# Altium integrated library IR Rectifier - Ultrafast Recovery.IntLib: 68 symbols
Pins are listed as number, name and electrical type; pins without a type are passive.

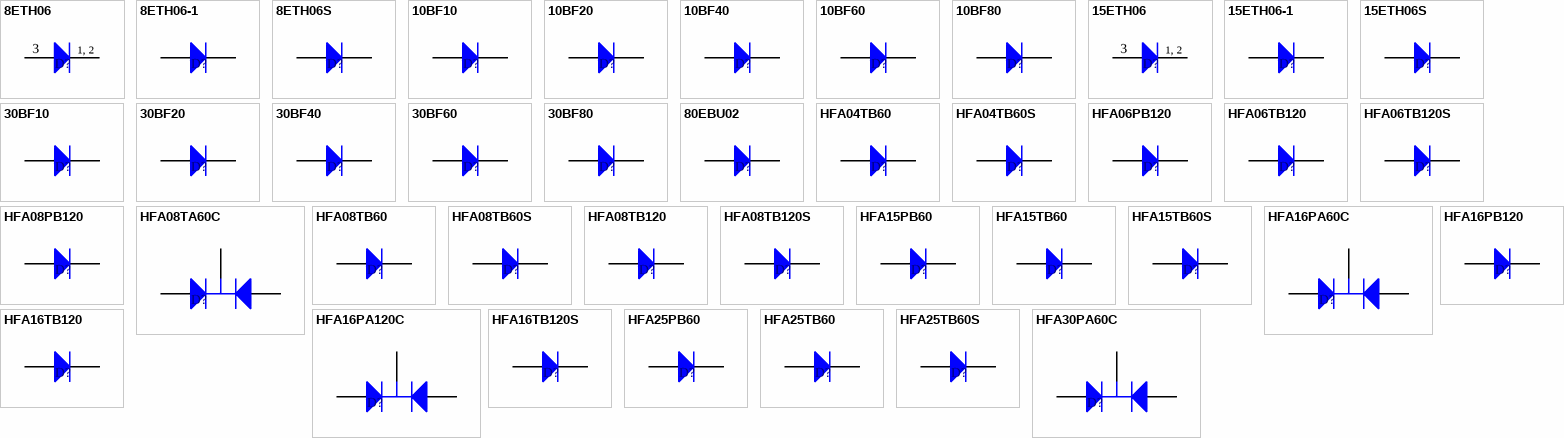
[diagram p0: symbols 8ETH06 to HFA30PA60C]

## 8ETH06
designator D?
Hyperfast Rectifier; Published: 17-Sep-2003; DatasheetDocument: Aug-2001; PackageDocument: Feb-1998; PackageReference: TO-220AC; Publisher: Altium Limited; ComponentLink1Description: Manufacturer Link; ComponentLink1URL: http://www.irf.com/; ComponentLink2Description: Datasheet; ComponentLink2URL: http://www.irf.com/product-info/datasheets/data/8ETH06.pdf
footprint TO-220AC (TO, Thru-Hole, Vertical, Heatsink Mounted; 3 In-Line Leads (1 Absent); Pitch 2.54 mm)
simulation model 8ETH06 (DIODE)
pins: 1 K, 2 K, 3 A
text: 1, 2

## 8ETH06-1
designator D?
Hyperfast Rectifier; Note: Pin 1 is not connected and not drawn; Published: 17-Sep-2003; DatasheetDocument: Aug-2001; PackageReference: TO-262; Publisher: Altium Limited; ComponentLink1Description: Manufacturer Link; ComponentLink1URL: http://www.irf.com/; ComponentLink2Description: Datasheet; ComponentLink2URL: http://www.irf.com/product-info/datasheets/data/8ETH06.pdf
footprint TO-262 (TO, Thru-Hole, Vertical, Heatsink Mounted; 3 In-Line Leads; Pitch 2.54 mm)
pins: 2 K, 3 A

## 8ETH06S
designator D?
Hyperfast Rectifier; Note: Pin 1 is not connected and not drawn; Published: 17-Sep-2003; DatasheetDocument: Aug-2001; PackageReference: D2PAK; Publisher: Altium Limited; ComponentLink1Description: Manufacturer Link; ComponentLink1URL: http://www.irf.com/; ComponentLink2Description: Datasheet; ComponentLink2URL: http://www.irf.com/product-info/datasheets/data/8ETH06.pdf
footprint D2PAK (D2-PAK/TO-263-AB; 3 Leads (1 Cropped); Body 15.5 (inc. leads) x 10.5 mm (LxW max))
pins: 2 K, 3 A

## 10BF10
designator D?
Surface Mountable Ultrafast Recovery Diode; Published: 8-Jun-2000; LatestRevisionDate: 17-Jul-2002; LatestRevisionNote: Re-released for DXP Platform.; DatasheetDocument: Jun-1999; PackageReference: SMB; Publisher: Altium Limited; ComponentLink1Description: Manufacturer Link; ComponentLink1URL: http://www.irf.com/; ComponentLink2Description: Datasheet; ComponentLink2URL: http://www.irf.com/product-info/datasheets/data/10bf.pdf
footprint SMB (DO-214-AA/SMB; 2 C-Bend Leads; Body 5.3 x 3.6 mm, inc. leads (LxW))
signal-integrity model 10BF10
pins: 1 A, 2 K

## 10BF20
designator D?
Surface Mountable Ultrafast Recovery Diode; Published: 8-Jun-2000; LatestRevisionDate: 17-Jul-2002; LatestRevisionNote: Re-released for DXP Platform.; DatasheetDocument: Jun-1999; PackageReference: SMB; Publisher: Altium Limited; ComponentLink1Description: Manufacturer Link; ComponentLink1URL: http://www.irf.com/; ComponentLink2Description: Datasheet; ComponentLink2URL: http://www.irf.com/product-info/datasheets/data/10bf.pdf
footprint SMB (DO-214-AA/SMB; 2 C-Bend Leads; Body 5.3 x 3.6 mm, inc. leads (LxW))
signal-integrity model 10BF20
pins: 1 A, 2 K

## 10BF40
designator D?
Surface Mountable Ultrafast Recovery Diode; Published: 8-Jun-2000; LatestRevisionDate: 17-Jul-2002; LatestRevisionNote: Re-released for DXP Platform.; DatasheetDocument: Jun-1999; PackageReference: SMB; Publisher: Altium Limited; ComponentLink1Description: Manufacturer Link; ComponentLink1URL: http://www.irf.com/; ComponentLink2Description: Datasheet; ComponentLink2URL: http://www.irf.com/product-info/datasheets/data/10bf.pdf
footprint SMB (DO-214-AA/SMB; 2 C-Bend Leads; Body 5.3 x 3.6 mm, inc. leads (LxW))
signal-integrity model 10BF40
pins: 1 A, 2 K

## 10BF60
designator D?
Surface Mountable Ultrafast Recovery Diode; Published: 8-Jun-2000; LatestRevisionDate: 17-Jul-2002; LatestRevisionNote: Re-released for DXP Platform.; DatasheetDocument: Jun-1999; PackageReference: SMB; Publisher: Altium Limited; ComponentLink1Description: Manufacturer Link; ComponentLink1URL: http://www.irf.com/; ComponentLink2Description: Datasheet; ComponentLink2URL: http://www.irf.com/product-info/datasheets/data/10bf.pdf
footprint SMB (DO-214-AA/SMB; 2 C-Bend Leads; Body 5.3 x 3.6 mm, inc. leads (LxW))
signal-integrity model 10BF60
pins: 1 A, 2 K

## 10BF80
designator D?
Surface Mountable Ultrafast Recovery Diode; Published: 8-Jun-2000; LatestRevisionDate: 17-Jul-2002; LatestRevisionNote: Re-released for DXP Platform.; DatasheetDocument: Jun-1999; PackageReference: SMB; Publisher: Altium Limited; ComponentLink1Description: Manufacturer Link; ComponentLink1URL: http://www.irf.com/; ComponentLink2Description: Datasheet; ComponentLink2URL: http://www.irf.com/product-info/datasheets/data/10bf.pdf
footprint SMB (DO-214-AA/SMB; 2 C-Bend Leads; Body 5.3 x 3.6 mm, inc. leads (LxW))
signal-integrity model 10BF80
pins: 1 A, 2 K

## 15ETH06
designator D?
Hyperfast Rectifier; Published: 17-Sep-2003; DatasheetDocument: Aug-2001; PackageDocument: Feb-1998; PackageReference: TO-220AC; Publisher: Altium Limited; ComponentLink1Description: Manufacturer Link; ComponentLink1URL: http://www.irf.com/; ComponentLink2Description: Datasheet; ComponentLink2URL: http://www.irf.com/product-info/datasheets/data/15ETH06.pdf
footprint TO-220AC (TO, Thru-Hole, Vertical, Heatsink Mounted; 3 In-Line Leads (1 Absent); Pitch 2.54 mm)
simulation model 15ETH06 (DIODE)
pins: 1 K, 2 K, 3 A
text: 1, 2

## 15ETH06-1
designator D?
Hyperfast Rectifier; Note: Pin 1 is not connected and not drawn; Published: 17-Sep-2003; DatasheetDocument: Rev. D, 1/08/2001; PackageReference: TO-262; Publisher: Altium Limited; ComponentLink1Description: Manufacturer Link; ComponentLink1URL: http://www.irf.com/; ComponentLink2Description: Datasheet; ComponentLink2URL: http://www.irf.com/product-info/datasheets/data/15ETH06.pdf
footprint TO-262 (TO, Thru-Hole, Vertical, Heatsink Mounted; 3 In-Line Leads; Pitch 2.54 mm)
pins: 2 K, 3 A

## 15ETH06S
designator D?
Hyperfast Rectifier; Note: Pin 1 is not connected and not drawn; Published: 17-Sep-2003; DatasheetDocument: Rev. D, 1/08/2001; PackageReference: D2PAK; Publisher: Altium Limited; ComponentLink1Description: Manufacturer Link; ComponentLink1URL: http://www.irf.com/; ComponentLink2Description: Datasheet; ComponentLink2URL: http://www.irf.com/product-info/datasheets/data/15ETH06.pdf
footprint D2PAK (D2-PAK/TO-263-AB; 3 Leads (1 Cropped); Body 15.5 (inc. leads) x 10.5 mm (LxW max))
pins: 2 K, 3 A

## 30BF10
designator D?
Surface Mountable Ultrafast Recovery Diode; Published: 8-Jun-2000; LatestRevisionDate: 17-Jul-2002; LatestRevisionNote: Re-released for DXP Platform.; DatasheetDocument: Jul-1999; PackageReference: SMC; Publisher: Altium Limited; Code_JEDEC: DO-214-AB; ComponentLink1Description: Manufacturer Link; ComponentLink1URL: http://www.irf.com/; ComponentLink2Description: Datasheet; ComponentLink2URL: http://www.irf.com/product-info/datasheets/data/30bf.pdf
footprint SMC (DO-214-AB/SMC; 2 C-Bend Leads; Body 7.9 x 5.9 mm, inc. leads (LxW))
signal-integrity model 30BF10
pins: 1 A, 2 K

## 30BF20
designator D?
Surface Mountable Ultrafast Recovery Diode; Published: 8-Jun-2000; LatestRevisionDate: 17-Jul-2002; LatestRevisionNote: Re-released for DXP Platform.; DatasheetDocument: Jul-1999; PackageReference: SMC; Publisher: Altium Limited; Code_JEDEC: DO-214-AB; ComponentLink1Description: Manufacturer Link; ComponentLink1URL: http://www.irf.com/; ComponentLink2Description: Datasheet; ComponentLink2URL: http://www.irf.com/product-info/datasheets/data/30bf.pdf
footprint SMC (DO-214-AB/SMC; 2 C-Bend Leads; Body 7.9 x 5.9 mm, inc. leads (LxW))
signal-integrity model 30BF20
pins: 1 A, 2 K

## 30BF40
designator D?
Surface Mountable Ultrafast Recovery Diode; Published: 8-Jun-2000; LatestRevisionDate: 17-Jul-2002; LatestRevisionNote: Re-released for DXP Platform.; DatasheetDocument: Jul-1999; PackageReference: SMC; Publisher: Altium Limited; Code_JEDEC: DO-214-AB; ComponentLink1Description: Manufacturer Link; ComponentLink1URL: http://www.irf.com/; ComponentLink2Description: Datasheet; ComponentLink2URL: http://www.irf.com/product-info/datasheets/data/30bf.pdf
footprint SMC (DO-214-AB/SMC; 2 C-Bend Leads; Body 7.9 x 5.9 mm, inc. leads (LxW))
signal-integrity model 30BF40
pins: 1 A, 2 K

## 30BF60
designator D?
Surface Mountable Ultrafast Recovery Diode; Published: 8-Jun-2000; LatestRevisionDate: 17-Jul-2002; LatestRevisionNote: Re-released for DXP Platform.; DatasheetDocument: Jul-1999; PackageReference: SMC; Publisher: Altium Limited; Code_JEDEC: DO-214-AB; ComponentLink1Description: Manufacturer Link; ComponentLink1URL: http://www.irf.com/; ComponentLink2Description: Datasheet; ComponentLink2URL: http://www.irf.com/product-info/datasheets/data/30bf.pdf
footprint SMC (DO-214-AB/SMC; 2 C-Bend Leads; Body 7.9 x 5.9 mm, inc. leads (LxW))
signal-integrity model 30BF60
pins: 1 A, 2 K

## 30BF80
designator D?
Surface Mountable Ultrafast Recovery Diode; Published: 8-Jun-2000; LatestRevisionDate: 17-Jul-2002; LatestRevisionNote: Re-released for DXP Platform.; DatasheetDocument: Jul-1999; PackageReference: SMC; Publisher: Altium Limited; Code_JEDEC: DO-214-AB; ComponentLink1Description: Manufacturer Link; ComponentLink1URL: http://www.irf.com/; ComponentLink2Description: Datasheet; ComponentLink2URL: http://www.irf.com/product-info/datasheets/data/30bf.pdf
footprint SMC (DO-214-AB/SMC; 2 C-Bend Leads; Body 7.9 x 5.9 mm, inc. leads (LxW))
signal-integrity model 30BF80
pins: 1 A, 2 K

## 80EBU02
designator D?
Ultrafast, Soft Recovery Diode; Published: 17-Sep-2003; DatasheetDocument: Jan-2001; PackageReference: PowIRtab; Publisher: Altium Limited; ComponentLink1Description: Manufacturer Link; ComponentLink1URL: http://www.irf.com/; ComponentLink2Description: Datasheet; ComponentLink2URL: http://www.irf.com/product-info/datasheets/data/80EBU02.pdf
simulation model 80EBU02 (DIODE)
pins: 1 K, 2 A

## HFA04TB60
designator D?
Ultrafast, Soft Recovery Diode; Note: Terminal 2 is the TAB and is electrically connected to the cathode; Published: 8-Jun-2000; LatestRevisionDate: 17-Jul-2002; LatestRevisionNote: Re-released for DXP Platform.; DatasheetDocument: Apr-1997; PackageDocument: Feb-1998; PackageReference: TO-220AC; Publisher: Altium Limited; ComponentLink1Description: Manufacturer Link; ComponentLink1URL: http://www.irf.com/; ComponentLink2Description: Datasheet; ComponentLink2URL: http://www.irf.com/product-info/datasheets/data/hfa04tb60.pdf
footprint TO-220AC (TO, Thru-Hole, Vertical, Heatsink Mounted; 3 In-Line Leads (1 Absent); Pitch 2.54 mm)
simulation model HFA04TB60 (SUBCKT)
signal-integrity model HFA04TB60
pins: 1 K, 3 A

## HFA04TB60S
designator D?
Ultrafast, Soft Recovery Diode; Note: Pin 1 is not connected and not drawn; Published: 8-Jun-2000; LatestRevisionDate: 17-Jul-2002; LatestRevisionNote: Re-released for DXP Platform.; DatasheetDocument: Jan-1999; PackageReference: D2PAK; Publisher: Altium Limited; ComponentLink1Description: Manufacturer Link; ComponentLink1URL: http://www.irf.com/; ComponentLink2Description: Datasheet; ComponentLink2URL: http://www.irf.com/product-info/datasheets/data/hfa04tb60s.pdf
footprint D2PAK (D2-PAK/TO-263-AB; 3 Leads (1 Cropped); Body 15.5 (inc. leads) x 10.5 mm (LxW max))
signal-integrity model HFA04TB60S
pins: 2 K, 3 A

## HFA06PB120
designator D?
Ultrafast, Soft Recovery Diode; Note: Pin 2 is missing from package and is not drawn; Published: 8-Jun-2000; LatestRevisionDate: 17-Jul-2002; LatestRevisionNote: Re-released for DXP Platform.; DatasheetDocument: Apr-1999; PackageDocument: Sep-1997; PackageReference: TO-247AC_A; Publisher: Altium Limited; ComponentLink1Description: Manufacturer Link; ComponentLink1URL: http://www.irf.com/; ComponentLink2Description: Datasheet; ComponentLink2URL: http://www.irf.com/product-info/datasheets/data/hfa06pb120.pdf
footprint TO-247AC_A (SIP with Mounting Hole; 2 Leads; Body 20 x 15.6 x 5 mm (typ))
signal-integrity model HFA06PB120
pins: 1 K, 3 A

## HFA06TB120
designator D?
Ultrafast, Soft Recovery Diode; Note: Terminal 2 is the TAB and is electrically connected to the cathode; Published: 8-Jun-2000; LatestRevisionDate: 17-Jul-2002; LatestRevisionNote: Re-released for DXP Platform.; DatasheetDocument: Apr-1999; PackageDocument: Feb-1998; PackageReference: TO-220AC; Publisher: Altium Limited; ComponentLink1Description: Manufacturer Link; ComponentLink1URL: http://www.irf.com/; ComponentLink2Description: Datasheet; ComponentLink2URL: http://www.irf.com/product-info/datasheets/data/hfa06tb120.pdf
footprint TO-220AC (TO, Thru-Hole, Vertical, Heatsink Mounted; 3 In-Line Leads (1 Absent); Pitch 2.54 mm)
simulation model HFA06TB120 (DIODE)
signal-integrity model HFA06TB120
pins: 1 K, 3 A

## HFA06TB120S
designator D?
Ultrafast, Soft Recovery Diode; Note: Pin 1 is not connected and not drawn; Published: 8-Jun-2000; LatestRevisionDate: 17-Jul-2002; LatestRevisionNote: Re-released for DXP Platform.; DatasheetDocument: Jan-1999; PackageReference: D2PAK; Publisher: Altium Limited; ComponentLink1Description: Manufacturer Link; ComponentLink1URL: http://www.irf.com/; ComponentLink2Description: Datasheet; ComponentLink2URL: http://www.irf.com/product-info/datasheets/data/hfa06tb120s.pdf
footprint D2PAK (D2-PAK/TO-263-AB; 3 Leads (1 Cropped); Body 15.5 (inc. leads) x 10.5 mm (LxW max))
signal-integrity model HFA06TB120S
pins: 2 K, 3 A

## HFA08PB120
designator D?
Ultrafast, Soft Recovery Diode; Note: Pin 2 is missing from package and is not drawn; Published: 8-Jun-2000; LatestRevisionDate: 17-Jul-2002; LatestRevisionNote: Re-released for DXP Platform.; DatasheetDocument: May-1997; PackageDocument: Sep-1997; PackageReference: TO-247AC_A; Publisher: Altium Limited; ComponentLink1Description: Manufacturer Link; ComponentLink1URL: http://www.irf.com/; ComponentLink2Description: Datasheet; ComponentLink2URL: http://www.irf.com/product-info/datasheets/data/hfa08pb120.pdf
footprint TO-247AC_A (SIP with Mounting Hole; 2 Leads; Body 20 x 15.6 x 5 mm (typ))
simulation model HFA08PB120 (SUBCKT)
signal-integrity model HFA08PB120
pins: 1 K, 3 A

## HFA08TA60C
designator D?
Ultrafast, Soft Recovery Diode; Published: 8-Jun-2000; LatestRevisionDate: 17-Jul-2002; LatestRevisionNote: Re-released for DXP Platform.; DatasheetDocument: Apr-1997; PackageDocument: Feb-1997; PackageReference: TO-220AB; Publisher: Altium Limited; ComponentLink1Description: Manufacturer Link; ComponentLink1URL: http://www.irf.com/; ComponentLink2Description: Datasheet; ComponentLink2URL: http://www.irf.com/product-info/datasheets/data/hfa08ta60c.pdf
footprint TO-220AB (TO, Thru-Hole, Vertical, Heatsink Mounted; 3 In-Line Leads; Pitch 2.54 mm)
signal-integrity model HFA08TA60C
pins: 1 A1, 2 K, 3 A2

## HFA08TB60
designator D?
Ultrafast, Soft Recovery Diode; Note: Terminal 2 is the TAB and is electrically connected to the cathode; Published: 8-Jun-2000; LatestRevisionDate: 17-Jul-2002; LatestRevisionNote: Re-released for DXP Platform.; DatasheetDocument: Apr-1997; PackageDocument: Feb-1998; PackageReference: TO-220AC; Publisher: Altium Limited; ComponentLink1Description: Manufacturer Link; ComponentLink1URL: http://www.irf.com/; ComponentLink2Description: Datasheet; ComponentLink2URL: http://www.irf.com/product-info/datasheets/data/hfa08tb60.pdf
footprint TO-220AC (TO, Thru-Hole, Vertical, Heatsink Mounted; 3 In-Line Leads (1 Absent); Pitch 2.54 mm)
simulation model HFA08TB60 (DIODE)
signal-integrity model HFA08TB60
pins: 1 K, 3 A

## HFA08TB60S
designator D?
Ultrafast, Soft Recovery Diode; Note: Pin 1 is not connected and not drawn; Published: 8-Jun-2000; LatestRevisionDate: 17-Jul-2002; LatestRevisionNote: Re-released for DXP Platform.; DatasheetDocument: Jan-1999; PackageReference: D2PAK; Publisher: Altium Limited; ComponentLink1Description: Manufacturer Link; ComponentLink1URL: http://www.irf.com/; ComponentLink2Description: Datasheet; ComponentLink2URL: http://www.irf.com/product-info/datasheets/data/hfa08tb60s.pdf
footprint D2PAK (D2-PAK/TO-263-AB; 3 Leads (1 Cropped); Body 15.5 (inc. leads) x 10.5 mm (LxW max))
signal-integrity model HFA08TB60S
pins: 2 K, 3 A

## HFA08TB120
designator D?
Ultrafast, Soft Recovery Diode; Note: Terminal 2 is the TAB and is electrically connected to the cathode; Published: 8-Jun-2000; LatestRevisionDate: 17-Jul-2002; LatestRevisionNote: Re-released for DXP Platform.; DatasheetDocument: May-1997; PackageDocument: Feb-1998; PackageReference: TO-220AC; Publisher: Altium Limited; ComponentLink1Description: Manufacturer Link; ComponentLink1URL: http://www.irf.com/; ComponentLink2Description: Datasheet; ComponentLink2URL: http://www.irf.com/product-info/datasheets/data/hfa08tb120.pdf
footprint TO-220AC (TO, Thru-Hole, Vertical, Heatsink Mounted; 3 In-Line Leads (1 Absent); Pitch 2.54 mm)
signal-integrity model HFA08TB120
pins: 1 K, 3 A

## HFA08TB120S
designator D?
Ultrafast, Soft Recovery Diode; Note: Pin 1 is not connected and not drawn; Published: 8-Jun-2000; LatestRevisionDate: 17-Jul-2002; LatestRevisionNote: Re-released for DXP Platform.; DatasheetDocument: Jan-1999; PackageReference: D2PAK; Publisher: Altium Limited; ComponentLink1Description: Manufacturer Link; ComponentLink1URL: http://www.irf.com/; ComponentLink2Description: Datasheet; ComponentLink2URL: http://www.irf.com/product-info/datasheets/data/hfa08tb120s.pdf
footprint D2PAK (D2-PAK/TO-263-AB; 3 Leads (1 Cropped); Body 15.5 (inc. leads) x 10.5 mm (LxW max))
signal-integrity model HFA08TB120S
pins: 2 K, 3 A

## HFA15PB60
designator D?
Ultrafast, Soft Recovery Diode; Note: Pin 2 is missing from package and is not drawn; Published: 8-Jun-2000; LatestRevisionDate: 17-Jul-2002; LatestRevisionNote: Re-released for DXP Platform.; DatasheetDocument: Apr-1997; PackageDocument: Sep-1997; PackageReference: TO-247AC_A; Publisher: Altium Limited; ComponentLink1Description: Manufacturer Link; ComponentLink1URL: http://www.irf.com/; ComponentLink2Description: Datasheet; ComponentLink2URL: http://www.irf.com/product-info/datasheets/data/hfa15pb60.pdf
footprint TO-247AC_A (SIP with Mounting Hole; 2 Leads; Body 20 x 15.6 x 5 mm (typ))
simulation model HFA15PB60 (DIODE)
signal-integrity model HFA15PB60
pins: 1 K, 3 A

## HFA15TB60
designator D?
Ultrafast, Soft Recovery Diode; Note: Terminal 2 is the TAB and is electrically connected to the cathode; Published: 8-Jun-2000; LatestRevisionDate: 17-Jul-2002; LatestRevisionNote: Re-released for DXP Platform.; DatasheetDocument: Apr-1997; PackageDocument: Feb-1998; PackageReference: TO-220AC; Publisher: Altium Limited; ComponentLink1Description: Manufacturer Link; ComponentLink1URL: http://www.irf.com/; ComponentLink2Description: Datasheet; ComponentLink2URL: http://www.irf.com/product-info/datasheets/data/hfa15tb60.pdf
footprint TO-220AC (TO, Thru-Hole, Vertical, Heatsink Mounted; 3 In-Line Leads (1 Absent); Pitch 2.54 mm)
simulation model HFA15TB60 (SUBCKT)
signal-integrity model HFA15TB60
pins: 1 K, 3 A

## HFA15TB60S
designator D?
Ultrafast, Soft Recovery Diode; Note: Pin 1 is not connected and not drawn; Published: 8-Jun-2000; LatestRevisionDate: 17-Jul-2002; LatestRevisionNote: Re-released for DXP Platform.; DatasheetDocument: Jan-1999; PackageReference: D2PAK; Publisher: Altium Limited; ComponentLink1Description: Manufacturer Link; ComponentLink1URL: http://www.irf.com/; ComponentLink2Description: Datasheet; ComponentLink2URL: http://www.irf.com/product-info/datasheets/data/hfa15tb60s.pdf
footprint D2PAK (D2-PAK/TO-263-AB; 3 Leads (1 Cropped); Body 15.5 (inc. leads) x 10.5 mm (LxW max))
signal-integrity model HFA15TB60S
pins: 2 K, 3 A

## HFA16PA60C
designator D?
Ultrafast, Soft Recovery Diode; Published: 8-Jun-2000; LatestRevisionDate: 17-Jul-2002; LatestRevisionNote: Re-released for DXP Platform.; DatasheetDocument: Apr-1997; PackageDocument: Aug-1997; PackageReference: TO-247AC; Publisher: Altium Limited; Code_JEDEC: TO-247-AC; ComponentLink1Description: Manufacturer Link; ComponentLink1URL: http://www.irf.com/; ComponentLink2Description: Datasheet; ComponentLink2URL: http://www.irf.com/product-info/datasheets/data/hfa16pa60c.pdf
footprint TO-247AC (SIP with Mounting Hole; 3 Leads; Body 20 x 15.6 x 5 mm (typ); Pitch 5.45 mm)
signal-integrity model HFA16PA60C
pins: 1 A1, 2 K, 3 A2

## HFA16PA120C
designator D?
Ultrafast, Soft Recovery Diode; Published: 8-Jun-2000; LatestRevisionDate: 17-Jul-2002; LatestRevisionNote: Re-released for DXP Platform.; DatasheetDocument: PD-2.361; PackageDocument: Aug-1997; PackageReference: TO-247AC; Publisher: Altium Limited; Code_JEDEC: TO-247-AC; ComponentLink1Description: Manufacturer Link; ComponentLink1URL: http://www.irf.com/; ComponentLink2Description: Datasheet; ComponentLink2URL: http://www.irf.com/product-info/datasheets/data/hfa16pa120c.pdf
footprint TO-247AC (SIP with Mounting Hole; 3 Leads; Body 20 x 15.6 x 5 mm (typ); Pitch 5.45 mm)
signal-integrity model HFA16PA120C
pins: 1 A1, 2 K, 3 A2

## HFA16PB120
designator D?
Ultrafast, Soft Recovery Diode; Note: Pin 2 is missing from package and is not drawn; Published: 8-Jun-2000; LatestRevisionDate: 17-Jul-2002; LatestRevisionNote: Re-released for DXP Platform.; DatasheetDocument: May-1997; PackageDocument: Sep-1997; PackageReference: TO-247AC_A; Publisher: Altium Limited; ComponentLink1Description: Manufacturer Link; ComponentLink1URL: http://www.irf.com/; ComponentLink2Description: Datasheet; ComponentLink2URL: http://www.irf.com/product-info/datasheets/data/hfa16pb120.pdf
footprint TO-247AC_A (SIP with Mounting Hole; 2 Leads; Body 20 x 15.6 x 5 mm (typ))
simulation model HFA16PB120 (SUBCKT)
signal-integrity model HFA16PB120
pins: 1 K, 3 A

## HFA16TB120
designator D?
Ultrafast, Soft Recovery Diode; Note: Terminal 2 is the TAB and is electrically connected to the cathode; Published: 8-Jun-2000; LatestRevisionDate: 17-Jul-2002; LatestRevisionNote: Re-released for DXP Platform.; DatasheetDocument: May-1997; PackageDocument: Feb-1998; PackageReference: TO-220AC; Publisher: Altium Limited; ComponentLink1Description: Manufacturer Link; ComponentLink1URL: http://www.irf.com/; ComponentLink2Description: Datasheet; ComponentLink2URL: http://www.irf.com/product-info/datasheets/data/hfa16tb120.pdf
footprint TO-220AC (TO, Thru-Hole, Vertical, Heatsink Mounted; 3 In-Line Leads (1 Absent); Pitch 2.54 mm)
signal-integrity model HFA16TB120
pins: 1 K, 3 A

## HFA16TB120S
designator D?
Ultrafast, Soft Recovery Diode; Note: Pin 1 is not connected and not drawn; Published: 8-Jun-2000; LatestRevisionDate: 17-Jul-2002; LatestRevisionNote: Re-released for DXP Platform.; DatasheetDocument: Jan-1999; PackageReference: D2PAK; Publisher: Altium Limited; ComponentLink1Description: Manufacturer Link; ComponentLink1URL: http://www.irf.com/; ComponentLink2Description: Datasheet; ComponentLink2URL: http://www.irf.com/product-info/datasheets/data/hfa16tb120s.pdf
footprint D2PAK (D2-PAK/TO-263-AB; 3 Leads (1 Cropped); Body 15.5 (inc. leads) x 10.5 mm (LxW max))
signal-integrity model HFA16TB120S
pins: 2 K, 3 A

## HFA25PB60
designator D?
Ultrafast, Soft Recovery Diode; Note: Pin 2 is missing from package and is not drawn; Published: 8-Jun-2000; LatestRevisionDate: 17-Jul-2002; LatestRevisionNote: Re-released for DXP Platform.; DatasheetDocument: Apr-1997; PackageDocument: Sep-1997; PackageReference: TO-247AC_A; Publisher: Altium Limited; ComponentLink1Description: Manufacturer Link; ComponentLink1URL: http://www.irf.com/; ComponentLink2Description: Datasheet; ComponentLink2URL: http://www.irf.com/product-info/datasheets/data/hfa25pb60.pdf
footprint TO-247AC_A (SIP with Mounting Hole; 2 Leads; Body 20 x 15.6 x 5 mm (typ))
signal-integrity model HFA25PB60
pins: 1 K, 3 A

## HFA25TB60
designator D?
Ultrafast, Soft Recovery Diode; Note: Terminal 2 is the TAB and is electrically connected to the cathode; Published: 8-Jun-2000; LatestRevisionDate: 17-Jul-2002; LatestRevisionNote: Re-released for DXP Platform.; DatasheetDocument: Apr-1997; PackageDocument: Feb-1998; PackageReference: TO-220AC; Publisher: Altium Limited; ComponentLink1Description: Manufacturer Link; ComponentLink1URL: http://www.irf.com/; ComponentLink2Description: Datasheet; ComponentLink2URL: http://www.irf.com/product-info/datasheets/data/hfa25tb60.pdf
footprint TO-220AC (TO, Thru-Hole, Vertical, Heatsink Mounted; 3 In-Line Leads (1 Absent); Pitch 2.54 mm)
simulation model HFA25TB60 (SUBCKT)
signal-integrity model HFA25TB60
pins: 1 K, 3 A

## HFA25TB60S
designator D?
Ultrafast, Soft Recovery Diode; Note: Pin 1 is not connected and not drawn; Published: 8-Jun-2000; LatestRevisionDate: 17-Jul-2002; LatestRevisionNote: Re-released for DXP Platform.; DatasheetDocument: Jan-1999; PackageReference: D2PAK; Publisher: Altium Limited; ComponentLink1Description: Manufacturer Link; ComponentLink1URL: http://www.irf.com/; ComponentLink2Description: Datasheet; ComponentLink2URL: http://www.irf.com/product-info/datasheets/data/hfa25tb60s.pdf
footprint D2PAK (D2-PAK/TO-263-AB; 3 Leads (1 Cropped); Body 15.5 (inc. leads) x 10.5 mm (LxW max))
signal-integrity model HFA25TB60S
pins: 2 K, 3 A

## HFA30PA60C
designator D?
Ultrafast, Soft Recovery Diode; Published: 8-Jun-2000; LatestRevisionDate: 17-Jul-2002; LatestRevisionNote: Re-released for DXP Platform.; DatasheetDocument: Apr-1998; PackageDocument: Aug-1997; PackageReference: TO-247AC; Publisher: Altium Limited; Code_JEDEC: TO-247-AC; ComponentLink1Description: Manufacturer Link; ComponentLink1URL: http://www.irf.com/; ComponentLink2Description: Datasheet; ComponentLink2URL: http://www.irf.com/product-info/datasheets/data/hfa30pa60c.pdf
footprint TO-247AC (SIP with Mounting Hole; 3 Leads; Body 20 x 15.6 x 5 mm (typ); Pitch 5.45 mm)
simulation model HFA30PA60C (SUBCKT)
signal-integrity model HFA30PA60C
pins: 1 A1, 2 K, 3 A2

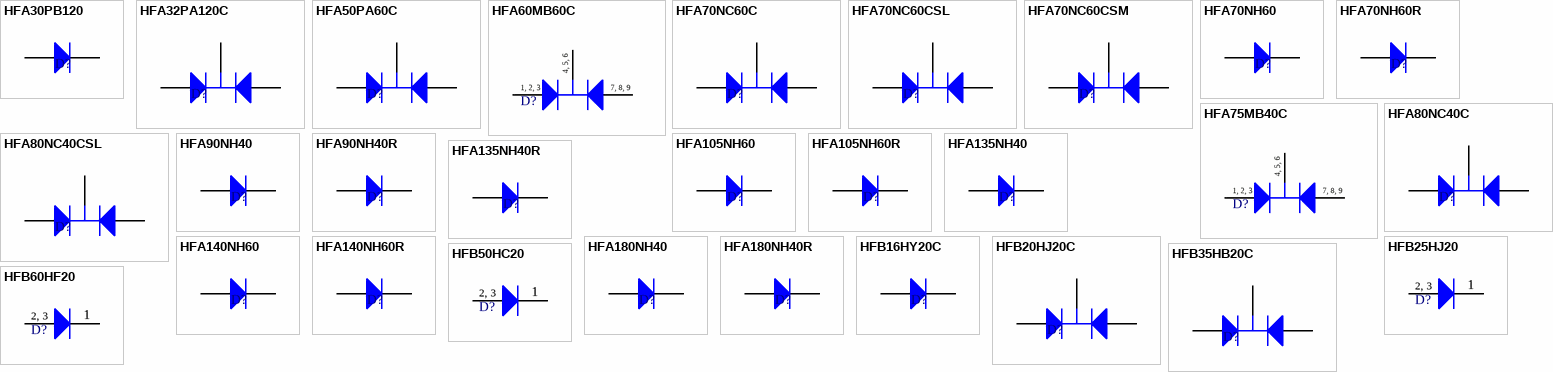
[diagram p1: symbols HFA30PB120 to HFB60HF20]

## HFA30PB120
designator D?
Ultrafast, Soft Recovery Diode; Note: Pin 2 is missing from package and is not drawn; Published: 8-Jun-2000; LatestRevisionDate: 17-Jul-2002; LatestRevisionNote: Re-released for DXP Platform.; DatasheetDocument: May-1997; PackageDocument: Sep-1997; PackageReference: TO-247AC_A; Publisher: Altium Limited; ComponentLink1Description: Manufacturer Link; ComponentLink1URL: http://www.irf.com/; ComponentLink2Description: Datasheet; ComponentLink2URL: http://www.irf.com/product-info/datasheets/data/hfa30pb120.pdf
footprint TO-247AC_A (SIP with Mounting Hole; 2 Leads; Body 20 x 15.6 x 5 mm (typ))
signal-integrity model HFA30PB120
pins: 1 K, 3 A

## HFA32PA120C
designator D?
Ultrafast, Soft Recovery Diode; Published: 8-Jun-2000; LatestRevisionDate: 17-Jul-2002; LatestRevisionNote: Re-released for DXP Platform.; DatasheetDocument: PD-2.360; PackageDocument: Aug-1997; PackageReference: TO-247AC; Publisher: Altium Limited; Code_JEDEC: TO-247-AC; ComponentLink1Description: Manufacturer Link; ComponentLink1URL: http://www.irf.com/; ComponentLink2Description: Datasheet; ComponentLink2URL: http://www.irf.com/product-info/datasheets/data/hfa32pa120c.pdf
footprint TO-247AC (SIP with Mounting Hole; 3 Leads; Body 20 x 15.6 x 5 mm (typ); Pitch 5.45 mm)
signal-integrity model HFA32PA120C
pins: 1 A1, 2 K, 3 A2

## HFA50PA60C
designator D?
Ultrafast, Soft Recovery Diode; Published: 8-Jun-2000; LatestRevisionDate: 17-Jul-2002; LatestRevisionNote: Re-released for DXP Platform.; DatasheetDocument: PD-2.337; PackageDocument: Aug-1997; PackageReference: TO-247AC; Publisher: Altium Limited; Code_JEDEC: TO-247-AC; ComponentLink1Description: Manufacturer Link; ComponentLink1URL: http://www.irf.com/; ComponentLink2Description: Datasheet; ComponentLink2URL: http://www.irf.com/product-info/datasheets/data/hfa50pa60c.pdf
footprint TO-247AC (SIP with Mounting Hole; 3 Leads; Body 20 x 15.6 x 5 mm (typ); Pitch 5.45 mm)
signal-integrity model HFA50PA60C
pins: 1 A1, 2 K, 3 A2

## HFA60MB60C
designator D?
Ultrafast, Soft Recovery Diode; Published: 8-Jun-2000; LatestRevisionDate: 17-Jul-2002; LatestRevisionNote: Re-released for DXP Platform.; DatasheetDocument: Mar-1999; PackageDocument: Mar-1999; PackageReference: TO-249; Publisher: Altium Limited; ComponentLink1Description: Manufacturer Link; ComponentLink1URL: http://www.irf.com/; ComponentLink2Description: Datasheet; ComponentLink2URL: http://www.irf.com/product-info/datasheets/data/hfa60mb60c.pdf
footprint TO-249 (Rectangular Flange Mount, Thru-Hole; 9 Leads; Pitch 3.81 mm)
signal-integrity model HFA60MB60C
pins: 1 A1, 2 A1, 3 A1, 4 K, 5 K, 6 K, 7 A2, 8 A2, 9 A2
text: 4, 5, 6; 1, 2, 3; 7, 8, 9

## HFA70NC60C
designator D?
Ultrafast, Soft Recovery Diode; Published: 8-Jun-2000; LatestRevisionDate: 17-Jul-2002; LatestRevisionNote: Re-released for DXP Platform.; DatasheetDocument: Jan-1999; PackageDocument: Jan-1999; PackageReference: D-61-8; Publisher: Altium Limited; ComponentLink1Description: Manufacturer Link; ComponentLink1URL: http://www.irf.com/; ComponentLink2Description: Datasheet; ComponentLink2URL: http://www.irf.com/product-info/datasheets/data/hfa70nc60c.pdf
footprint D-61-8 (Rectangular Flange Mount, Thru-Hole; 3 Leads; Pitch 5.08 mm)
signal-integrity model HFA70NC60C
pins: 1 A1, 2 K, 3 A2

## HFA70NC60CSL
designator D?
Ultrafast, Soft Recovery Diode; Published: 8-Jun-2000; LatestRevisionDate: 17-Jul-2002; LatestRevisionNote: Re-released for DXP Platform.; DatasheetDocument: Jan-1999; PackageDocument: Jan-1999; PackageReference: D61-8-SL; Publisher: Altium Limited; ComponentLink1Description: Manufacturer Link; ComponentLink1URL: http://www.irf.com/; ComponentLink2Description: Datasheet; ComponentLink2URL: http://www.irf.com/product-info/datasheets/data/hfa70nc60csl.pdf
footprint D61-8-SL (Single-Ended SM Package; 3 Leads (1 Cropped); Body (inc. leads) 14.4 x 19.9 mm (LxW max))
signal-integrity model HFA70NC60CSL
pins: 1 A1, 2 K, 3 A2

## HFA70NC60CSM
designator D?
Ultrafast, Soft Recovery Diode; Published: 8-Jun-2000; LatestRevisionDate: 17-Jul-2002; LatestRevisionNote: Re-released for DXP Platform.; DatasheetDocument: Jan-1999; PackageDocument: Jan-1999; PackageReference: SMD61-8; Publisher: Altium Limited; ComponentLink1Description: Manufacturer Link; ComponentLink1URL: http://www.irf.com/; ComponentLink2Description: Datasheet; ComponentLink2URL: http://www.irf.com/product-info/datasheets/data/hfa70nc60csm.pdf
footprint SMD61-8 (Rectangular Flange Mount, Thru-Hole; 3 Leads; Pitch 5.08 mm)
signal-integrity model HFA70NC60CSM
pins: 1 A1, 2 K, 3 A2

## HFA70NH60
designator D?
Ultrafast, Soft Recovery Diode; PackageDocument: Rev. B,  Feb-2001; Note: Land pattern features silkscreen outline and mounting holes only.; Published: 8-Jun-2000; LatestRevisionDate: 17-Jul-2002; LatestRevisionNote: Re-released for DXP Platform.; DatasheetDocument: Feb-1999; PackageReference: HALF-PAK; Publisher: Altium Limited; ComponentLink1Description: Manufacturer Link; ComponentLink1URL: http://www.irf.com/; ComponentLink2Description: Datasheet; ComponentLink2URL: http://www.irf.com/product-info/datasheets/data/hfa70nh60.pdf
footprint HALF-PAK (Half-Pak Module; 1 Lug Terminal, 1 Base Terminal; Body 39.62 x 19.69 x 15.11 mm (LxWxH max))
signal-integrity model HFA70NH60
pins: 1 A, 2 K

## HFA70NH60R
designator D?
Ultrafast, Soft Recovery Diode; PackageDocument: Rev. B,  Feb-2001; Note: Land pattern features silkscreen outline and mounting holes only.; Published: 8-Jun-2000; LatestRevisionDate: 17-Jul-2002; LatestRevisionNote: Re-released for DXP Platform.; DatasheetDocument: Feb-1999; PackageReference: HALF-PAK; Publisher: Altium Limited; ComponentLink1Description: Manufacturer Link; ComponentLink1URL: http://www.irf.com/; ComponentLink2Description: Datasheet; ComponentLink2URL: http://www.irf.com/product-info/datasheets/data/hfa70nh60r.pdf
footprint HALF-PAK (Half-Pak Module; 1 Lug Terminal, 1 Base Terminal; Body 39.62 x 19.69 x 15.11 mm (LxWxH max))
signal-integrity model HFA70NH60R
pins: 1 K, 2 A

## HFA75MB40C
designator D?
Ultrafast, Soft Recovery Diode; Published: 8-Jun-2000; LatestRevisionDate: 17-Jul-2002; LatestRevisionNote: Re-released for DXP Platform.; DatasheetDocument: May-1997; PackageDocument: Mar-1999; PackageReference: TO-249; Publisher: Altium Limited; ComponentLink1Description: Manufacturer Link; ComponentLink1URL: http://www.irf.com/; ComponentLink2Description: Datasheet; ComponentLink2URL: http://www.irf.com/product-info/datasheets/data/hfa75mb40c.pdf
footprint TO-249 (Rectangular Flange Mount, Thru-Hole; 9 Leads; Pitch 3.81 mm)
signal-integrity model HFA75MB40C
pins: 1 A1, 2 A1, 3 A1, 4 K, 5 K, 6 K, 7 A2, 8 A2, 9 A2
text: 4, 5, 6; 1, 2, 3; 7, 8, 9

## HFA80NC40C
designator D?
Ultrafast, Soft Recovery Diode; Published: 8-Jun-2000; LatestRevisionDate: 17-Jul-2002; LatestRevisionNote: Re-released for DXP Platform.; DatasheetDocument: Jan-1999; PackageDocument: Jan-1999; PackageReference: D-61-8; Publisher: Altium Limited; ComponentLink1Description: Manufacturer Link; ComponentLink1URL: http://www.irf.com/; ComponentLink2Description: Datasheet; ComponentLink2URL: http://www.irf.com/product-info/datasheets/data/hfa80nc40c.pdf
footprint D-61-8 (Rectangular Flange Mount, Thru-Hole; 3 Leads; Pitch 5.08 mm)
signal-integrity model HFA80NC40C
pins: 1 A1, 2 K, 3 A2

## HFA80NC40CSL
designator D?
Ultrafast, Soft Recovery Diode; Published: 8-Jun-2000; LatestRevisionDate: 17-Jul-2002; LatestRevisionNote: Re-released for DXP Platform.; DatasheetDocument: Jan-1999; PackageDocument: Jan-1999; PackageReference: D61-8-SL; Publisher: Altium Limited; ComponentLink1Description: Manufacturer Link; ComponentLink1URL: http://www.irf.com/; ComponentLink2Description: Datasheet; ComponentLink2URL: http://www.irf.com/product-info/datasheets/data/hfa80nc40csl.pdf
footprint D61-8-SL (Single-Ended SM Package; 3 Leads (1 Cropped); Body (inc. leads) 14.4 x 19.9 mm (LxW max))
simulation model HFA80NC40CSL (SUBCKT)
signal-integrity model HFA80NC40CSL
pins: 1 A1, 2 K, 3 A2

## HFA90NH40
designator D?
Ultrafast, Soft Recovery Diode; PackageDocument: Rev. B,  Feb-2001; Note: Land pattern features silkscreen outline and mounting holes only.; Published: 8-Jun-2000; LatestRevisionDate: 17-Jul-2002; LatestRevisionNote: Re-released for DXP Platform.; DatasheetDocument: Feb-1999; PackageReference: HALF-PAK; Publisher: Altium Limited; ComponentLink1Description: Manufacturer Link; ComponentLink1URL: http://www.irf.com/; ComponentLink2Description: Datasheet; ComponentLink2URL: http://www.irf.com/product-info/datasheets/data/hfa90nh40.pdf
footprint HALF-PAK (Half-Pak Module; 1 Lug Terminal, 1 Base Terminal; Body 39.62 x 19.69 x 15.11 mm (LxWxH max))
signal-integrity model HFA90NH40
pins: 1 A, 2 K

## HFA90NH40R
designator D?
Ultrafast, Soft Recovery Diode; PackageDocument: Rev. B,  Feb-2001; Note: Land pattern features silkscreen outline and mounting holes only.; Published: 8-Jun-2000; LatestRevisionDate: 17-Jul-2002; LatestRevisionNote: Re-released for DXP Platform.; DatasheetDocument: Feb-1999; PackageReference: HALF-PAK; Publisher: Altium Limited; ComponentLink1Description: Manufacturer Link; ComponentLink1URL: http://www.irf.com/; ComponentLink2Description: Datasheet; ComponentLink2URL: http://www.irf.com/product-info/datasheets/data/hfa90nh40r.pdf
footprint HALF-PAK (Half-Pak Module; 1 Lug Terminal, 1 Base Terminal; Body 39.62 x 19.69 x 15.11 mm (LxWxH max))
signal-integrity model HFA90NH40R
pins: 1 K, 2 A

## HFA105NH60
designator D?
Ultrafast, Soft Recovery Diode; PackageDocument: Rev. B,  Feb-2001; Note: Land pattern features silkscreen outline and mounting holes only.; Published: 8-Jun-2000; LatestRevisionDate: 17-Jul-2002; LatestRevisionNote: Re-released for DXP Platform.; DatasheetDocument: Feb-1999; PackageReference: HALF-PAK; Publisher: Altium Limited; ComponentLink1Description: Manufacturer Link; ComponentLink1URL: http://www.irf.com/; ComponentLink2Description: Datasheet; ComponentLink2URL: http://www.irf.com/product-info/datasheets/data/hfa105nh60.pdf
footprint HALF-PAK (Half-Pak Module; 1 Lug Terminal, 1 Base Terminal; Body 39.62 x 19.69 x 15.11 mm (LxWxH max))
signal-integrity model HFA105NH60
pins: 1 A, 2 K

## HFA105NH60R
designator D?
Ultrafast, Soft Recovery Diode; PackageDocument: Rev. B,  Feb-2001; Note: Land pattern features silkscreen outline and mounting holes only.; Published: 8-Jun-2000; LatestRevisionDate: 17-Jul-2002; LatestRevisionNote: Re-released for DXP Platform.; DatasheetDocument: Feb-1999; PackageReference: HALF-PAK; Publisher: Altium Limited; ComponentLink1Description: Manufacturer Link; ComponentLink1URL: http://www.irf.com/; ComponentLink2Description: Datasheet; ComponentLink2URL: http://www.irf.com/product-info/datasheets/data/hfa105nh60r.pdf
footprint HALF-PAK (Half-Pak Module; 1 Lug Terminal, 1 Base Terminal; Body 39.62 x 19.69 x 15.11 mm (LxWxH max))
signal-integrity model HFA105NH60R
pins: 1 K, 2 A

## HFA135NH40
designator D?
Ultrafast, Soft Recovery Diode; PackageDocument: Rev. B,  Feb-2001; Note: Land pattern features silkscreen outline and mounting holes only.; Published: 8-Jun-2000; LatestRevisionDate: 17-Jul-2002; LatestRevisionNote: Re-released for DXP Platform.; DatasheetDocument: Mar-1999; PackageReference: HALF-PAK; Publisher: Altium Limited; ComponentLink1Description: Manufacturer Link; ComponentLink1URL: http://www.irf.com/; ComponentLink2Description: Datasheet; ComponentLink2URL: http://www.irf.com/product-info/datasheets/data/hfa135nh40.pdf
footprint HALF-PAK (Half-Pak Module; 1 Lug Terminal, 1 Base Terminal; Body 39.62 x 19.69 x 15.11 mm (LxWxH max))
signal-integrity model HFA135NH40
pins: 1 A, 2 K

## HFA135NH40R
designator D?
Ultrafast, Soft Recovery Diode; PackageDocument: Rev. B,  Feb-2001; Note: Land pattern features silkscreen outline and mounting holes only.; Published: 8-Jun-2000; LatestRevisionDate: 17-Jul-2002; LatestRevisionNote: Re-released for DXP Platform.; DatasheetDocument: Mar-1999; PackageReference: HALF-PAK; Publisher: Altium Limited; ComponentLink1Description: Manufacturer Link; ComponentLink1URL: http://www.irf.com/; ComponentLink2Description: Datasheet; ComponentLink2URL: http://www.irf.com/product-info/datasheets/data/hfa135nh40r.pdf
footprint HALF-PAK (Half-Pak Module; 1 Lug Terminal, 1 Base Terminal; Body 39.62 x 19.69 x 15.11 mm (LxWxH max))
signal-integrity model HFA135NH40R
pins: 1 K, 2 A

## HFA140NH60
designator D?
Ultrafast, Soft Recovery Diode; PackageDocument: Rev. B,  Feb-2001; Note: Land pattern features silkscreen outline and mounting holes only.; Published: 8-Jun-2000; LatestRevisionDate: 17-Jul-2002; LatestRevisionNote: Re-released for DXP Platform.; DatasheetDocument: Mar-1999; PackageReference: HALF-PAK; Publisher: Altium Limited; ComponentLink1Description: Manufacturer Link; ComponentLink1URL: http://www.irf.com/; ComponentLink2Description: Datasheet; ComponentLink2URL: http://www.irf.com/product-info/datasheets/data/hfa140nh60.pdf
footprint HALF-PAK (Half-Pak Module; 1 Lug Terminal, 1 Base Terminal; Body 39.62 x 19.69 x 15.11 mm (LxWxH max))
signal-integrity model HFA140NH60
pins: 1 A, 2 K

## HFA140NH60R
designator D?
Ultrafast, Soft Recovery Diode; PackageDocument: Rev. B,  Feb-2001; Note: Land pattern features silkscreen outline and mounting holes only.; Published: 8-Jun-2000; LatestRevisionDate: 17-Jul-2002; LatestRevisionNote: Re-released for DXP Platform.; DatasheetDocument: Mar-1999; PackageReference: HALF-PAK; Publisher: Altium Limited; ComponentLink1Description: Manufacturer Link; ComponentLink1URL: http://www.irf.com/; ComponentLink2Description: Datasheet; ComponentLink2URL: http://www.irf.com/product-info/datasheets/data/hfa140nh60r.pdf
footprint HALF-PAK (Half-Pak Module; 1 Lug Terminal, 1 Base Terminal; Body 39.62 x 19.69 x 15.11 mm (LxWxH max))
simulation model HFA140NH60R (DIODE)
signal-integrity model HFA140NH60R
pins: 1 K, 2 A

## HFA180NH40
designator D?
Ultrafast, Soft Recovery Diode; PackageDocument: Rev. B,  Feb-2001; Note: Land pattern features silkscreen outline and mounting holes only.; Published: 8-Jun-2000; LatestRevisionDate: 17-Jul-2002; LatestRevisionNote: Re-released for DXP Platform.; DatasheetDocument: Mar-1999; PackageReference: HALF-PAK; Publisher: Altium Limited; ComponentLink1Description: Manufacturer Link; ComponentLink1URL: http://www.irf.com/; ComponentLink2Description: Datasheet; ComponentLink2URL: http://www.irf.com/product-info/datasheets/data/hfa180nh40.pdf
footprint HALF-PAK (Half-Pak Module; 1 Lug Terminal, 1 Base Terminal; Body 39.62 x 19.69 x 15.11 mm (LxWxH max))
signal-integrity model HFA180NH40
pins: 1 A, 2 K

## HFA180NH40R
designator D?
Ultrafast, Soft Recovery Diode; PackageDocument: Rev. B,  Feb-2001; Note: Land pattern features silkscreen outline and mounting holes only.; Published: 8-Jun-2000; LatestRevisionDate: 17-Jul-2002; LatestRevisionNote: Re-released for DXP Platform.; DatasheetDocument: Mar-1999; PackageReference: HALF-PAK; Publisher: Altium Limited; ComponentLink1Description: Manufacturer Link; ComponentLink1URL: http://www.irf.com/; ComponentLink2Description: Datasheet; ComponentLink2URL: http://www.irf.com/product-info/datasheets/data/hfa180nh40r.pdf
footprint HALF-PAK (Half-Pak Module; 1 Lug Terminal, 1 Base Terminal; Body 39.62 x 19.69 x 15.11 mm (LxWxH max))
signal-integrity model HFA180NH40R
pins: 1 K, 2 A

## HFB16HY20C
designator D?
Ultrafast, Soft Recovery Diode; Note: Pin 2 is not connected and not drawn; Published: 17-Sep-2003; DatasheetDocument: 9-Aug-2001; PackageDocument: Aug-2001; PackageReference: TO-257AA; Publisher: Altium Limited; ComponentLink1Description: Manufacturer Link; ComponentLink1URL: http://www.irf.com/; ComponentLink2Description: Datasheet; ComponentLink2URL: http://www.irf.com/product-info/datasheets/data/HFB16HY20C.pdf
footprint TO-257AA (TO, Thru-Hole, Vertical, Heatsink Mounted; 3 In-Line Leads; Pitch 2.54 mm)
simulation model HFB16HY20C (DIODE)
pins: 1 K, 3 A

## HFB20HJ20C
designator D?
Ultrafast, Soft Recovery Diode; Published: 17-Sep-2003; DatasheetDocument: 8-May-2001; PackageDocument: 16-Sep-2002; PackageReference: SMD-0.5; Publisher: Altium Limited; ComponentLink1Description: Manufacturer Link; ComponentLink1URL: http://www.irf.com/; ComponentLink2Description: Datasheet; ComponentLink2URL: http://www.irf.com/product-info/datasheets/data/HFB20HJ20C.pdf
footprint SMD-0.5 (SM; 3 Leadless Terminals; Body 10.28 x 7.64 x 3.06 mm (LxWxH))
simulation model HFB20HJ20C (SUBCKT)
pins: 1 K, 2 A1, 3 A2

## HFB25HJ20
designator D?
Ultrafast, Soft Recovery Diode; Published: 17-Sep-2003; DatasheetDocument: 9-Jul-2001; PackageDocument: 16-Sep-2002; PackageReference: SMD-0.5; Publisher: Altium Limited; ComponentLink1Description: Manufacturer Link; ComponentLink1URL: http://www.irf.com/; ComponentLink2Description: Datasheet; ComponentLink2URL: http://www.irf.com/product-info/datasheets/data/HFB25HJ20.pdf
footprint SMD-0.5 (SM; 3 Leadless Terminals; Body 10.28 x 7.64 x 3.06 mm (LxWxH))
simulation model HFB25HJ20 (DIODE)
pins: 1 K, 2 A1, 3 A2
text: 2, 3

## HFB35HB20C
designator D?
Ultrafast, Soft Recovery Diode; Published: 17-Sep-2003; DatasheetDocument: 18-Oct-2001; PackageReference: TO-254AA; Publisher: Altium Limited; Code_JEDEC: TO-254-AA; ComponentLink1Description: Manufacturer Link; ComponentLink1URL: http://www.irf.com/; ComponentLink2Description: Datasheet; ComponentLink2URL: http://www.irf.com/product-info/datasheets/data/HFB35HB20C.pdf
footprint TO-254AA (TO, Thru-Hole, Vertical, Heatsink Mounted; 3 In-Line Leads; Pitch 3.81 mm)
simulation model HFB35HB20C (SUBCKT)
pins: 1 A1, 2 K, 3 A2

## HFB50HC20
designator D?
Ultrafast, Soft Recovery Diode; Published: 17-Sep-2003; DatasheetDocument: 18-Oct-2001; PackageReference: TO-258AA; Publisher: Altium Limited; ComponentLink1Description: Manufacturer Link; ComponentLink1URL: http://www.irf.com/; ComponentLink2Description: Datasheet; ComponentLink2URL: http://www.irf.com/product-info/datasheets/data/HFB50HC20.pdf
footprint TO-258AA (TO, Thru-Hole, Vertical, Heatsink Mounted; 3 In-Line Leads; Pitch 5.08 mm)
simulation model HFB50HC20 (DIODE)
pins: 1 K, 2 A1, 3 A2
text: 2, 3

## HFB60HF20
designator D?
Ultrafast, Soft Recovery Diode; Published: 17-Sep-2003; DatasheetDocument: 10-Jul-2001; PackageDocument: 10-Jul-2001; PackageReference: SMD-1; Publisher: Altium Limited; ComponentLink1Description: Manufacturer Link; ComponentLink1URL: http://www.irf.com/; ComponentLink2Description: Datasheet; ComponentLink2URL: http://www.irf.com/product-info/datasheets/data/HFB60HF20.pdf
footprint SMD-1 (SM; 3 Leadless Terminals; Body 16 x 11.55 x 3.58 mm (LxWxH))
simulation model HFB60HF20 (DIODE)
pins: 1 K, 2 A1, 3 A2
text: 2, 3